# Altium footprint library EECS418_lib.PcbLib: 39 footprints (part 3 of 3)
Each footprint in its own frame and in the unit in brackets; x right, y up, seen from the top. Pads: shape width x height; smd on the part's side, far side on the other; paste and mask are expansions set on the pad; w line width, h text height; cw(c..) or ccw(c..) is an arc to the next point about the centre after c.
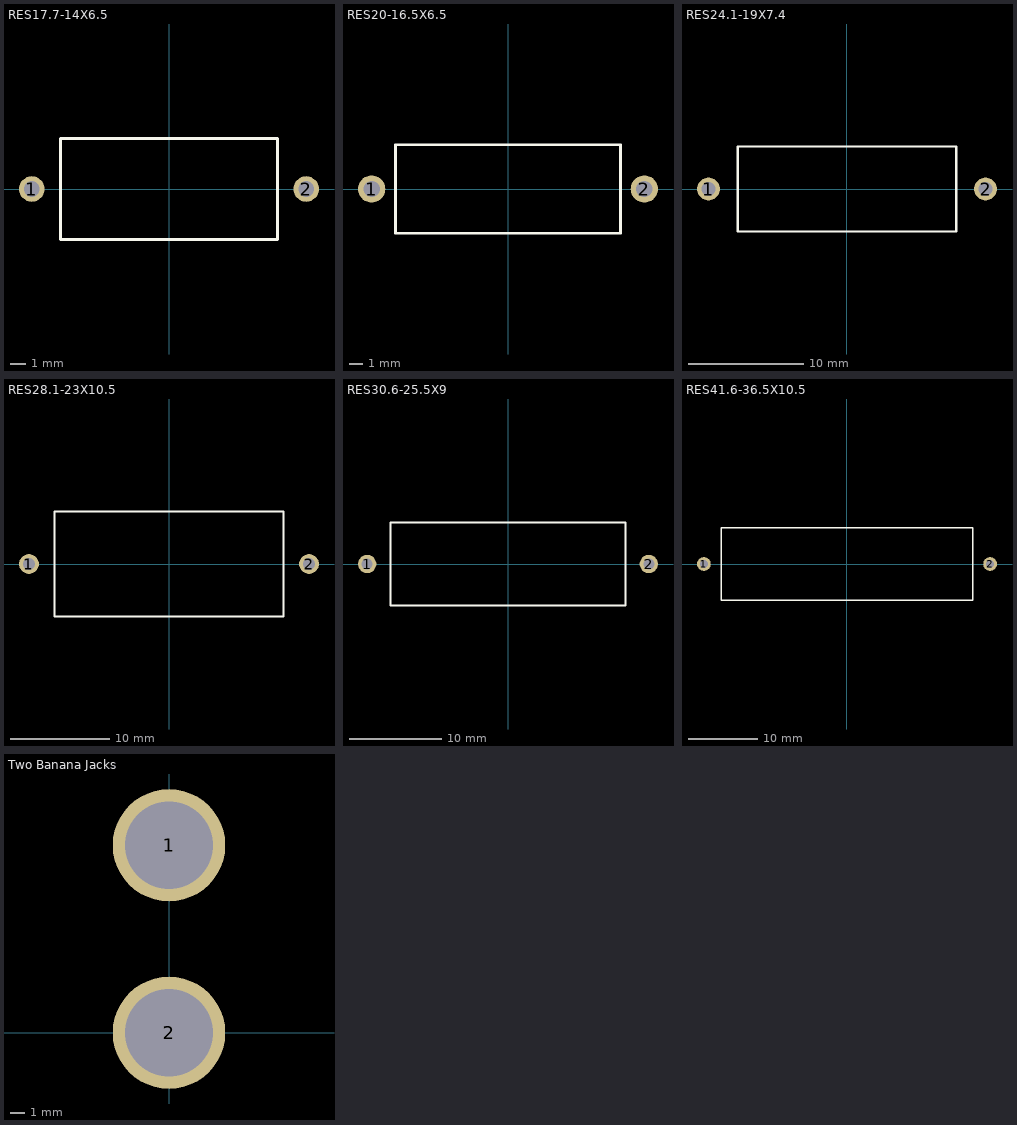
[diagram p2: the footprints below, top view; thin cyan lines are the x and y axes]

## RES17.7-14X6.5 [mm] "Resistor, Axial; Body 14 x 6.5 x 6.5mm (LxWxH max), Lead Dia. 0.7 mm (max)"
height 6.5
pads (2):
  round 1.65 hole 1: 1(-8.85,0) 2(8.85,0)
Top Overlay:
  lines w0.2: -7,-3.25 7,-3.25 7,3.25 -7,3.25 -7,-3.25

## RES20-16.5X6.5 [mm] "Resistor, Axial; Body 16.5 x 6.5 mm (LxDia. max), Lead Dia. 0.85 mm (max)"
height 6.5
pads (2):
  round 2 hole 1.2: 1(-10,0) 2(10,0)
Top Overlay:
  lines w0.2: -8.25,-3.25 -8.25,3.25 8.25,3.25 8.25,-3.25 -8.25,-3.25

## RES24.1-19X7.4 [mm] "Resistor, Axial; Body 19 x 7.4 x 7.4mm (LxWxH max), Lead Dia. 0.85 mm (max)"
height 7.4
pads (2):
  round 2 hole 1.2: 1(-12.05,0) 2(12.05,0)
Top Overlay:
  lines w0.2: -9.5,-3.7 9.5,-3.7 9.5,3.7 -9.5,3.7 -9.5,-3.7

## RES28.1-23X10.5 [mm] "Resistor, Axial; Body 23 x 10.5 x 10.5mm (LxWxH max), Lead Dia. 0.85 mm (max)"
height 10.5
pads (2):
  round 2 hole 1.2: 1(-14.05,0) 2(14.05,0)
Top Overlay:
  lines w0.2: -11.5,-5.25 -11.5,5.25 11.5,5.25 11.5,-5.25 -11.5,-5.25

## RES30.6-25.5X9 [mm] "Resistor, Axial; Body 25.5 x 9 mm (LxDia. max), Lead Dia. 0.85 mm (max)"
height 9
pads (2):
  round 2 hole 1.2: 1(-15.3,0) 2(15.3,0)
Top Overlay:
  lines w0.2: -12.75,-4.5 -12.75,4.5 12.75,4.5 12.75,-4.5 -12.75,-4.5

## RES41.6-36.5X10.5 [mm] "Resistor, Axial; Body 36.5 x 10.5 x 10.5mm (LxWxH max), Lead Dia. 0.85 mm (max)"
height 10.5
pads (2):
  round 2 hole 1.2: 1(-20.8,0) 2(20.8,0)
Top Overlay:
  lines w0.2: -18.25,-5.25 18.25,-5.25 18.25,5.25 -18.25,5.25 -18.25,-5.25

## Two Banana Jacks [mil]
pads (2):
  round 300 hole 234: 1(0,500) 2(0,0)